# EAGLE library part TDA7480 (library Audio-Power-amlifier V.2.0)
The TDA7480 is an audio class-D amplifier assembled in Power DIP package specially designed for high efficiency applications mainly for TV and Home Stereo sets.
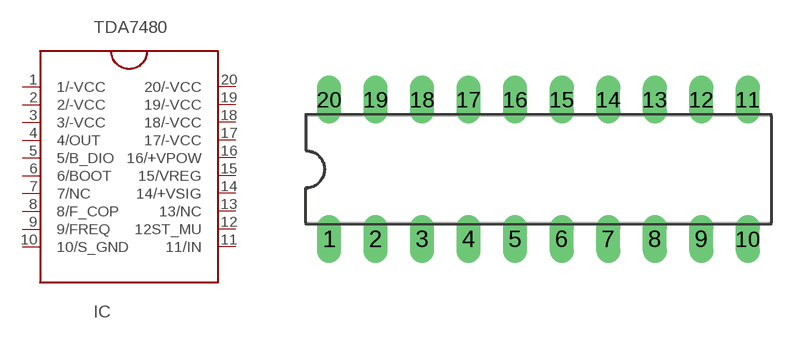
[diagram p130: symbol with the pads of DIL20; footprint DIL20]

Designator prefix IC

## TDA7480  [DIL20]
1  1/-VCC  pwr
2  2/-VCC  pwr
3  3/-VCC  pwr
4  4/OUT  out
5  5/B_DIO
6  6/BOOT
7  7/NC  nc
8  8/F_COP
9  9/FREQ
10  10/S_GND  pwr
11  11/IN  in
12  12ST_MU  in
13  13/NC  nc
14  14/+VSIG  pwr
15  15/VREG
16  16/+VPOW  pwr
17  17/-VCC  pwr
18  18/-VCC  pwr
19  19/-VCC  pwr
20  20/-VCC  pwr

## Footprint DIL20 (pad centres in mm)
Dual In Line Package
drill 0.813 long: 1 -11.43,-3.81; 2 -8.89,-3.81; 3 -6.35,-3.81; 4 -3.81,-3.81; 5 -1.27,-3.81; 6 1.27,-3.81; 7 3.81,-3.81; 8 6.35,-3.81; 9 8.89,-3.81; 10 11.43,-3.81; 11 11.43,3.81; 12 8.89,3.81; 13 6.35,3.81; 14 3.81,3.81; 15 1.27,3.81; 16 -1.27,3.81; 17 -3.81,3.81; 18 -6.35,3.81; 19 -8.89,3.81; 20 -11.43,3.81